# Altium footprint library 2.07-SOT封装.PcbLib: 39 footprints (part 3 of 3)
Each footprint in its own frame and in the unit in brackets; x right, y up, seen from the top. Pads: shape width x height; smd on the part's side, far side on the other; paste and mask are expansions set on the pad; w line width, h text height; cw(c..) or ccw(c..) is an arc to the next point about the centre after c.
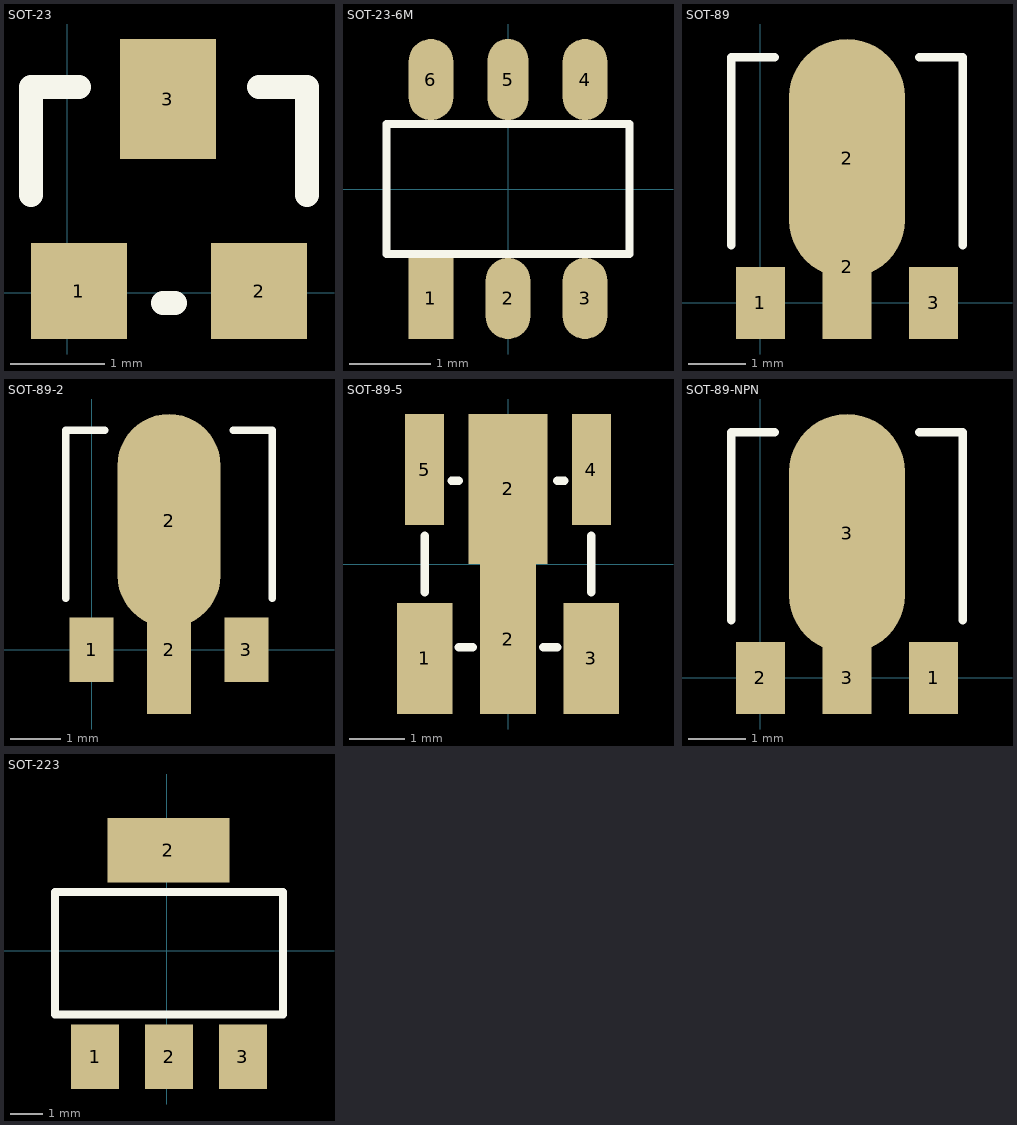
[diagram p2: the footprints below, top view; thin cyan lines are the x and y axes]

## SOT-23 [mil] "封装库来自淘宝卖家 ID：黄晶宝石"
pads (3):
  rect 40x40 smd: 1(4.88,0.63) 2(79.88,0.63)
  rect 40x50 smd: 3(41.88,80.63)
Top Overlay:
  lines w10: -15.12,40.63 -15.12,85.63 4.88,85.63 ; 39.88,-4.37 44.88,-4.37 ; 79.88,85.63 99.88,85.63 99.88,40.63
3D body "SOT-23-3.STEP": height 47.24, standoff 0, extent -14.87,-11.02 99.3,99.22

## SOT-23-6M [mm] "封装库来自淘宝卖家 ID：黄晶宝石"
pads (6):
  rect 0.55x1 smd: 1(-0.95,-1.35)
  oval 0.55x1 smd: 2(0,-1.35) 3(0.95,-1.35) 4(0.95,1.35) 6(-0.95,1.35)
  oval 0.5x1 smd: 5(0,1.35)
Top Overlay:
  lines w0.1: -1.5,-0.8 1.5,-0.8 1.5,0.8 -1.5,0.8 -1.5,-0.8
3D body "SOT-23-6-3.STEP": height 0.86, standoff 0, extent -1.5,-1.405 1.5,1.405

## SOT-89 [mil]
pads (4):
  rect 34.02x50 smd: 1(0,0) 3(120,0)
  rect 34x100 smd: 2(60,25)
  oval 80x165.35 smd: 2(60,100)
Top Overlay:
  lines w5.91: -20,40 -20,170 10,170 ; 110,170 140,170 140,40
3D body "SW3dPS-SOT89.STEP": height 62.57, standoff -0.76, extent -30.55,-16.65 150.55,150.67

## SOT-89-2 [mil]
pads (4):
  rect 34.02x50 smd: 1(0,0) 3(120,0)
  rect 34x100 smd: 2(60,0)
  oval 80x165.35 smd: 2(60,100)
Top Overlay:
  lines w5.91: -20,40 -20,170 10,170 ; 110,170 140,170 140,40
3D body "SW3dPS-SOT89.STEP": height 62.57, standoff -0.76, extent -30.55,-16.65 150.55,150.67

## SOT-89-5 [mm]
pads (6):
  rect 1x2 smd: 1(-1.5,-1.7) 3(1.5,-1.7)
  rect 1x2.7 smd: 2(0,-1.35)
  rect 1.422x2.7 smd: 2(0,1.35)
  rect 0.7x2 smd: 4(1.5,1.7) 5(-1.5,1.7)
Top Overlay:
  lines w0.15: -1.5,-0.508 -1.5,0.508 ; -1.016,1.5 -0.889,1.5 ; -0.889,-1.5 -0.635,-1.5 ; 0.635,-1.5 0.889,-1.5 ; 0.889,1.5 1.016,1.5 ; 1.5,-0.508 1.5,0.508
3D body "SW3dPS-SOT895-A-PKG.STEP": height 1.2, standoff -0.3, extent -2.25,-1.9 2.25,1.9

## SOT-89-NPN [mil]
pads (4):
  rect 34.02x50 smd: 1(120,0) 2(0,0)
  rect 34x50 smd: 3(60,0)
  oval 80x165.35 smd: 3(60,100)
Top Overlay:
  lines w5.91: -20,40 -20,170 10,170 ; 110,170 140,170 140,40
3D body "SW3dPS-SOT89.STEP": height 62.57, standoff -0.76, extent -30.55,-16.65 150.55,150.67

## SOT-223 [mil] "封装库来自淘宝卖家 ID：黄晶宝石"
pads (4):
  rect 59x79 smd: 1(-88,-130) 2(2.55,-130) 3(93.1,-130)
  rect 150x79 smd: 2(1.88,123.54)
Top Overlay:
  lines w10: -137.45,-78 142.55,-78 142.55,72 -137.45,72 -137.45,-78
3D body "SOT-223_MP04A.STEP": height 66.93, standoff 0, extent -126.41,-138.72 129.5,135.3